# Altium footprint library LilyPad-Wearables.PCBLIB: 17 footprints (part 1 of 2)
Each footprint in its own frame and in the unit in brackets; x right, y up, seen from the top. Pads: shape width x height; smd on the part's side, far side on the other; paste and mask are expansions set on the pad; w line width, h text height; cw(c..) or ccw(c..) is an arc to the next point about the centre after c.
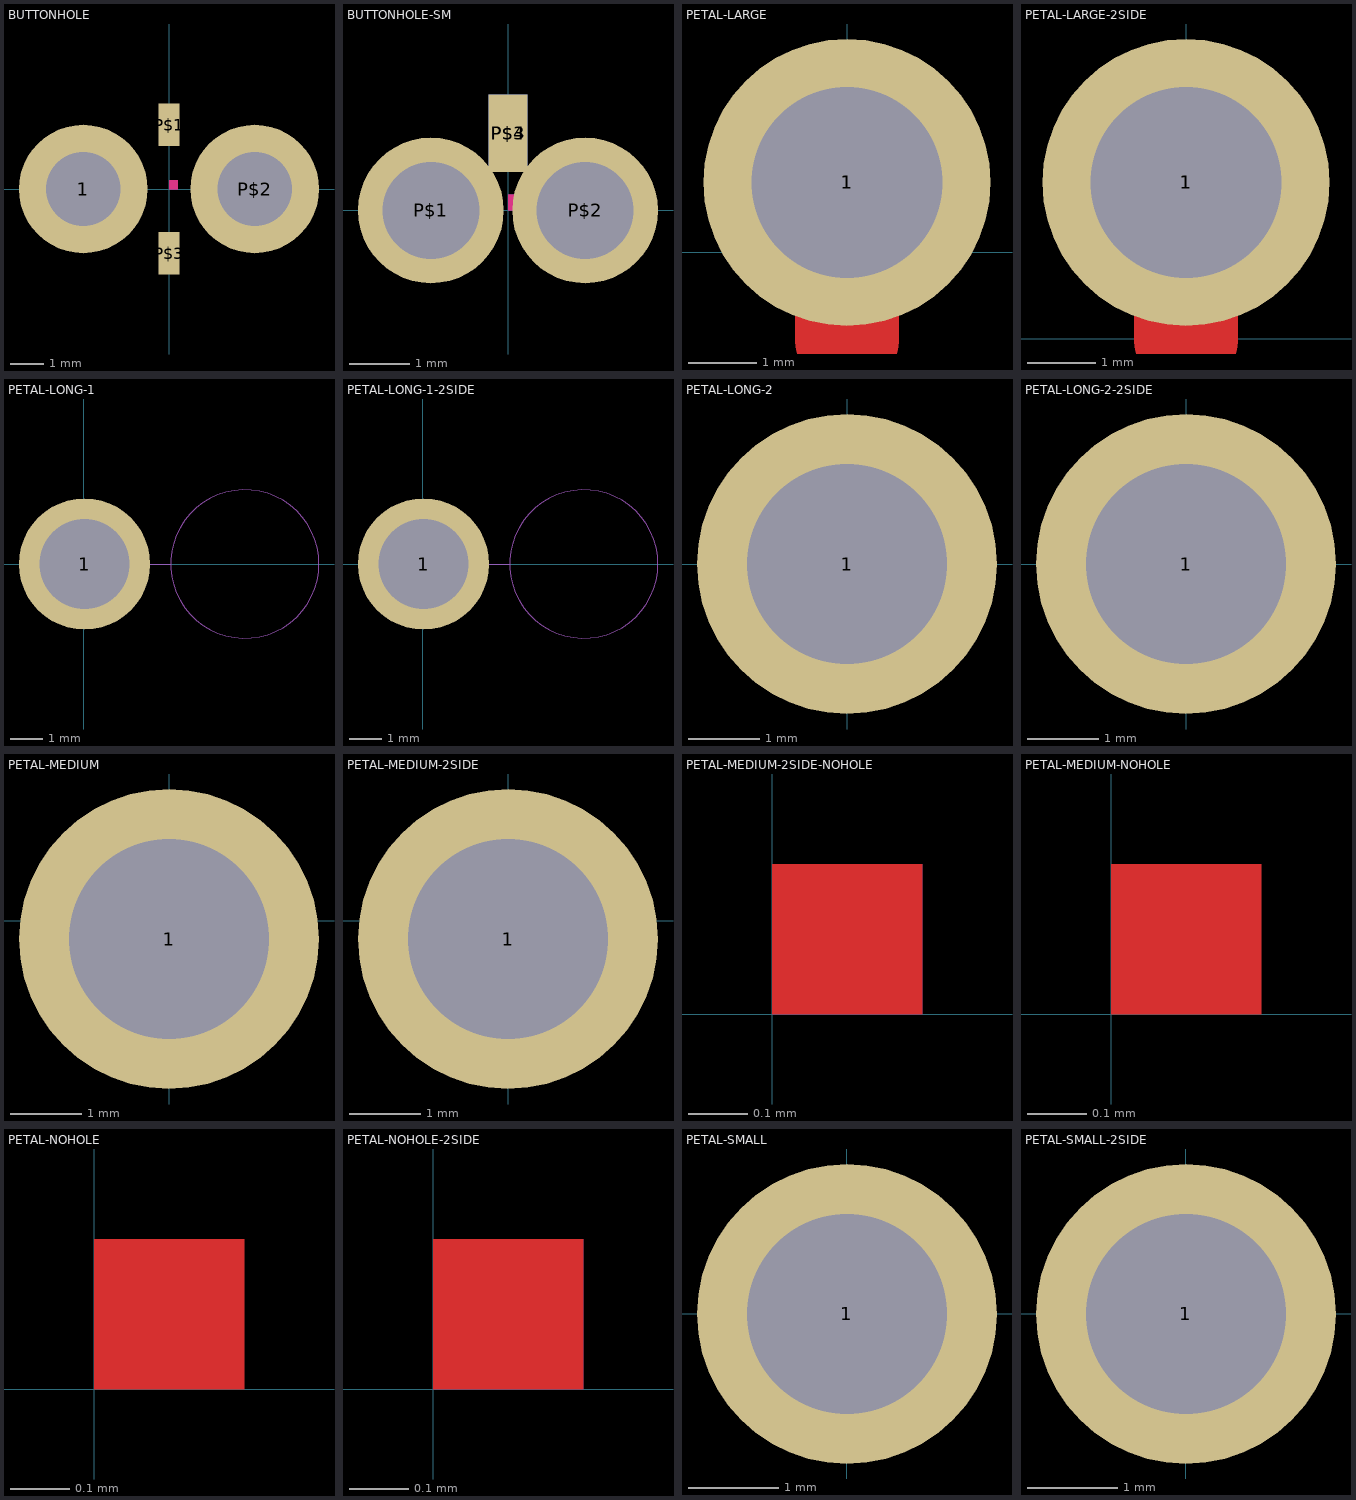
[diagram p0: the footprints below, top view; thin cyan lines are the x and y axes]

## BUTTONHOLE [mil]
pads (4):
  round 150 hole 86.61: 1(-100,0) P$2(100,0)
  rect 25x50 smd: P$1(0,75) P$3(0,-75)
Top Layer:
  region: 0,0 10,0 10,10 0,10
Bottom Layer:
  region: 0,0 10,0 10,10 0,10
Top Solder:
  region: 0,0 10,0 10,10 0,10
Bottom Solder:
  region: 0,0 10,0 10,10 0,10
Mechanical 8 keep-out:
  region: 0,0 10,0 10,10 0,10
  region: 0,0 10,0 10,10 0,10
Mechanical 9 keep-out:
  region: 0,0 10,0 10,10 0,10
  region: 0,0 10,0 10,10 0,10

## BUTTONHOLE-SM [mil]
pads (4):
  round 94.48 hole 62.99: P$1(-50,0) P$2(50,0)
  rect 25x50 smd: P$3(0,50)
  rect 25x50 smd far side: P$4(0,50)
Top Layer:
  region: 0,0 10,0 10,10 0,10
Bottom Layer:
  region: 0,0 10,0 10,10 0,10
Top Solder:
  region: 0,0 10,0 10,10 0,10
Bottom Solder:
  region: 0,0 10,0 10,10 0,10
Mechanical 8 keep-out:
  region: 0,0 10,0 10,10 0,10
  region: 0,0 10,0 10,10 0,10
Mechanical 9 keep-out:
  region: 0,0 10,0 10,10 0,10
  region: 0,0 10,0 10,10 0,10

## PETAL-LARGE [mil]
pads (2):
  round 165 hole 110: 1(0,40)
  round 59.06 hole 59.06: 1(0,40)
Top Layer:
  region: 0,0 10,0 10,10 0,10
  lines w60: 0,-50 0,50
Top Solder:
  region: 0,0 10,0 10,10 0,10

## PETAL-LARGE-2SIDE [mil]
pads (2):
  round 165 hole 110: 1(0,90)
  round 59.06 hole 59.06: 1(0,90)
Top Layer:
  region: 0,0 10,0 10,10 0,10
  lines w60: 0,0 0,100
Bottom Layer:
  region: 0,0 10,0 10,10 0,10
Top Solder:
  region: 0,0 10,0 10,10 0,10
Bottom Solder:
  region: 0,0 10,0 10,10 0,10

## PETAL-LONG-1 [mil]
pads (1):
  round 160 hole 110: 1(1.18,0)
Top Layer:
  region: 0,0 10,0 10,10 0,10
Top Solder:
  region: 0,0 10,0 10,10 0,10
Mechanical 14:
  circle w0.39: c196.85,0 r90.55
  lines w0.39: 0,0 106.3,0

## PETAL-LONG-1-2SIDE [mil]
pads (1):
  round 160 hole 110: 1(1.18,0)
Top Layer:
  region: 0,0 10,0 10,10 0,10
Bottom Layer:
  region: 0,0 10,0 10,10 0,10
Top Solder:
  region: 0,0 10,0 10,10 0,10
Bottom Solder:
  region: 0,0 10,0 10,10 0,10
Mechanical 14:
  circle w0.39: c196.85,0 r90.55
  lines w0.39: 0,0 106.3,0

## PETAL-LONG-2 [mil]
pads (1):
  round 165 hole 110: 1(0,0)
Top Layer:
  region: 0,0 10,0 10,10 0,10
Top Solder:
  region: 0,0 10,0 10,10 0,10

## PETAL-LONG-2-2SIDE [mil]
pads (1):
  round 165 hole 110: 1(0,0)
Top Layer:
  region: 0,0 10,0 10,10 0,10
Bottom Layer:
  region: 0,0 10,0 10,10 0,10
Top Solder:
  region: 0,0 10,0 10,10 0,10
Bottom Solder:
  region: 0,0 10,0 10,10 0,10

## PETAL-MEDIUM [mil]
pads (1):
  round 165 hole 110: 1(0,-10)
Top Layer:
  region: 0,0 10,0 10,10 0,10
Top Solder:
  region: 0,0 10,0 10,10 0,10

## PETAL-MEDIUM-2SIDE [mil]
pads (1):
  round 165 hole 110: 1(0,-10)
Top Layer:
  region: 0,0 10,0 10,10 0,10
Bottom Layer:
  region: 0,0 10,0 10,10 0,10
Top Solder:
  region: 0,0 10,0 10,10 0,10
Bottom Solder:
  region: 0,0 10,0 10,10 0,10

## PETAL-MEDIUM-2SIDE-NOHOLE [mil]
Top Layer:
  region: 0,0 10,0 10,10 0,10
Bottom Layer:
  region: 0,0 10,0 10,10 0,10
Top Solder:
  region: 0,0 10,0 10,10 0,10
Bottom Solder:
  region: 0,0 10,0 10,10 0,10

## PETAL-MEDIUM-NOHOLE [mil]
Top Layer:
  region: 0,0 10,0 10,10 0,10
Top Solder:
  region: 0,0 10,0 10,10 0,10

## PETAL-NOHOLE [mil]
Top Layer:
  region: 0,0 10,0 10,10 0,10
Top Solder:
  region: 0,0 10,0 10,10 0,10

## PETAL-NOHOLE-2SIDE [mil]
Top Layer:
  region: 0,0 10,0 10,10 0,10
Bottom Layer:
  region: 0,0 10,0 10,10 0,10
Top Solder:
  region: 0,0 10,0 10,10 0,10
Bottom Solder:
  region: 0,0 10,0 10,10 0,10

## PETAL-SMALL [mil]
pads (1):
  round 129.91 hole 86.61: 1(0,0)
Top Layer:
  region: 0,0 10,0 10,10 0,10
Top Solder:
  region: 0,0 10,0 10,10 0,10

## PETAL-SMALL-2SIDE [mil]
pads (1):
  round 129.91 hole 86.61: 1(0,0)
Top Layer:
  region: 0,0 10,0 10,10 0,10
Bottom Layer:
  region: 0,0 10,0 10,10 0,10
Top Solder:
  region: 0,0 10,0 10,10 0,10
Bottom Solder:
  region: 0,0 10,0 10,10 0,10